# EAGLE library part AS-ITM-00385 (library tinycircuits)
LORA TRX MODULE +20DBM/-139DBM
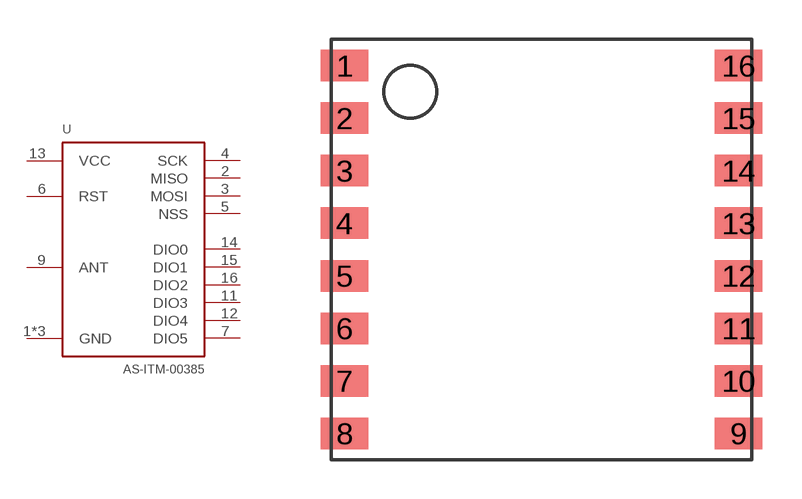
[diagram p157: symbol with the pads of RFM22B-S2; footprint RFM22B-S2]

Designator prefix U

## AS-ITM-00385 (PARTNO: AS-ITM-00385; VALUE: RFM95W)  [RFM22B-S2]
1  GND
2  MISO
3  MOSI
4  SCK
5  NSS
6  RST
7  DIO5
8  GND
9  ANT
10  GND
11  DIO3
12  DIO4
13  VCC
14  DIO0
15  DIO1
16  DIO2

## Footprint RFM22B-S2 (pad centres in mm)
smd 1.8 x 1.2: 1 -7.5,7; 2 -7.5,5; 3 -7.5,3; 4 -7.5,1; 5 -7.5,-1; 6 -7.5,-3; 7 -7.5,-5; 8 -7.5,-7; 9 7.5,-7; 10 7.5,-5; 11 7.5,-3; 12 7.5,-1; 13 7.5,1; 14 7.5,3; 15 7.5,5; 16 7.5,7